# Altium schematic symbol library SCH - POWER - LINEAR VREG - TI LMS1587-1P5KTT.SchLib: 1 symbol
Pins are listed as number, name and electrical type; pins without a type are passive.

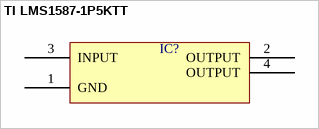
[diagram p0: symbol TI LMS1587-1P5KTT]

## TI LMS1587-1P5KTT
designator IC?  (value not drawn)
pins: 1 GND, 2 OUTPUT, 3 INPUT, 4 OUTPUT